# Altium footprint library SR PCB Library V01.PcbLib: 402 footprints (part 21 of 26)
Each footprint in its own frame and in the unit in brackets; x right, y up, seen from the top. Pads: shape width x height; smd on the part's side, far side on the other; paste and mask are expansions set on the pad; w line width, h text height; cw(c..) or ccw(c..) is an arc to the next point about the centre after c.
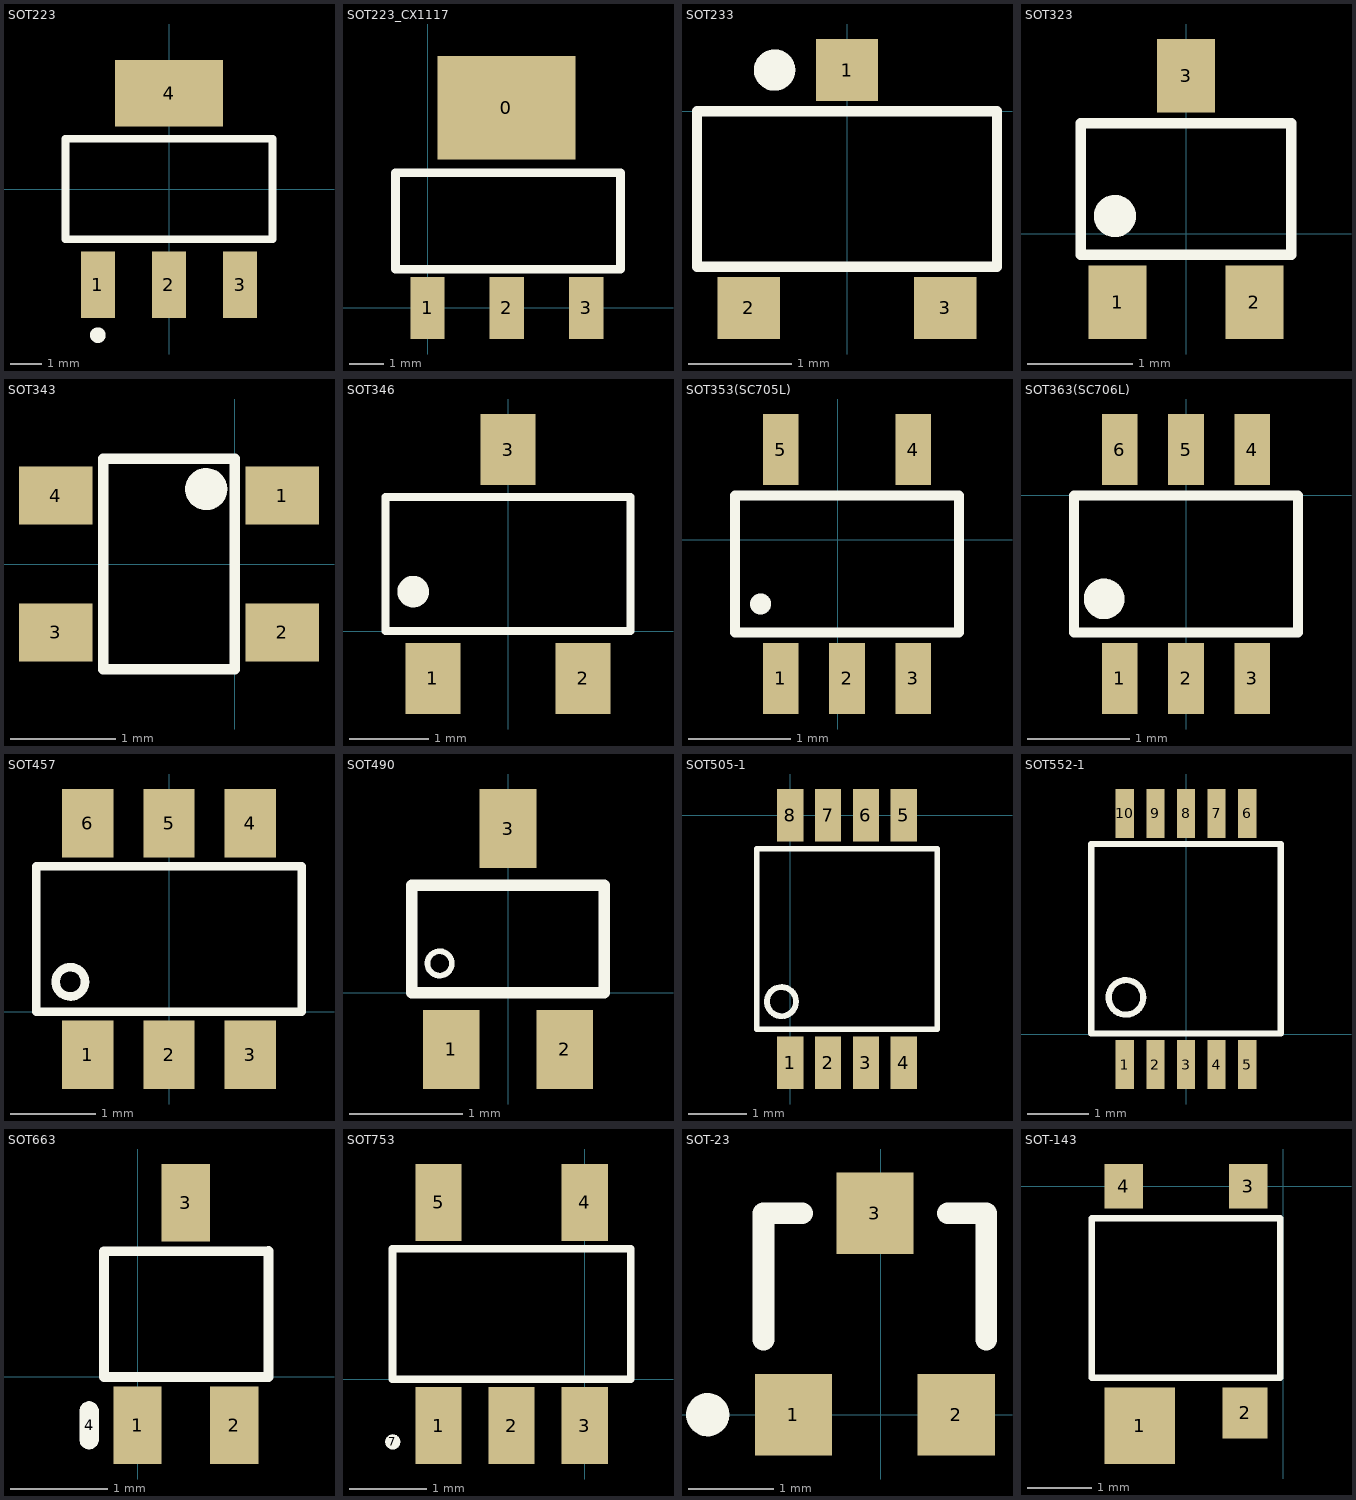
[diagram p20: the footprints below, top view; thin cyan lines are the x and y axes]

## SOT223 [mm]
pads (4):
  rect 1.1x2.15 smd: 1(-2.3,-3.1) 2(0,-3.1) 3(2.3,-3.1)
  rect 3.5x2.15 smd: 4(0,3.1)
Top Overlay:
  circle w0.254: c-2.3,-4.725 r0.125
  lines w0.254: -3.35,-1.625 -3.35,1.625 3.35,1.625 3.35,-1.625 -3.35,-1.625

## SOT223_CX1117 [mm]
pads (4):
  rect 4x3 smd: 0(2.287,5.803)
  rect 1x1.8 smd: 1(0,0) 2(2.3,0) 3(4.6,0)
Top Overlay:
  lines w0.254: -0.93,1.12 5.6,1.12 5.6,3.92 -0.93,3.92 -0.93,1.12

## SOT233 [mm]
pads (3):
  rect 0.6x0.6 smd: 1(0,0.4) 2(-0.95,-1.9) 3(0.95,-1.9)
Top Overlay:
  circle w0.2: c-0.7,0.4 r0.1
  lines w0.1: -1.45,-1.5 1.45,-1.5 1.45,0 -1.45,0 -1.45,-1.5

## SOT323 [mm]
pads (3):
  rect 0.55x0.7 smd: 1(-0.65,-0.65) 2(0.65,-0.65) 3(0,1.5)
Top Overlay:
  circle w0.2: c-0.675,0.168 r0.1
  lines w0.1: -1,-0.2 -1,1.05 1,1.05 1,-0.2 -1,-0.2

## SOT343 [mm]
pads (4):
  rect 0.7x0.55 smd: 1(0.45,0.65) 2(0.45,-0.65) 3(-1.7,-0.65) 4(-1.7,0.65)
Top Overlay:
  circle w0.2: c-0.271,0.711 r0.1
  lines w0.1: -1.25,-1 0,-1 0,1 -1.25,1 -1.25,-1

## SOT346 [mm]
pads (3):
  rect 0.7x0.9 smd: 1(-0.95,-0.6) 2(0.95,-0.6) 3(0,2.3)
Top Overlay:
  circle w0.2: c-1.2,0.5 r0.1
  lines w0.1: -1.55,0 -1.55,1.7 1.55,1.7 1.55,0 -1.55,0

## SOT353(SC705L) [mm]
pads (5):
  rect 0.35x0.7 smd: 1(-0.558,-1.364) 2(0.092,-1.364) 3(0.742,-1.364) 4(0.742,0.886) 5(-0.558,0.886)
Top Overlay:
  circle w0.2: c-0.757,-0.631 r0.004
  lines w0.1: -1.008,-0.914 1.192,-0.914 1.192,0.436 -1.008,0.436 -1.008,-0.914

## SOT363(SC706L) [mm]
pads (6):
  rect 0.35x0.7 smd: 1(-0.65,-1.8) 2(0,-1.8) 3(0.65,-1.8) 4(0.65,0.45) 5(0,0.45) 6(-0.65,0.45)
Top Overlay:
  circle w0.2: c-0.805,-1.018 r0.1
  lines w0.1: -1.1,-1.35 1.1,-1.35 1.1,0 -1.1,0 -1.1,-1.35

## SOT457 [mm]
pads (6):
  rect 0.6x0.8 smd: 1(-0.95,-0.5) 2(0,-0.5) 3(0.95,-0.5) 4(0.95,2.2) 5(0,2.2) 6(-0.95,2.2)
Top Overlay:
  circle w0.1: c-1.151,0.35 r0.171
  lines w0.1: -1.55,0 1.55,0 1.55,1.7 -1.55,1.7 -1.55,0

## SOT490 [mm]
pads (3):
  rect 0.5x0.7 smd: 1(-0.5,-0.5) 2(0.5,-0.5) 3(0,1.45)
Top Overlay:
  circle w0.05: c-0.604,0.259 r0.107
  lines w0.1: -0.85,0 -0.85,0.95 0.85,0.95 0.85,0 -0.85,0

## SOT505-1 [mm]
pads (8):
  rect 0.45x0.9 smd: 1(0,-4.25) 2(0.65,-4.25) 3(1.3,-4.25) 4(1.95,-4.25) 5(1.95,0) 6(1.3,0) 7(0.65,0) 8(0,0)
Top Overlay:
  circle w0.1: c-0.15,-3.2 r0.25
  lines w0.1: -0.575,-3.675 -0.575,-0.575 2.525,-0.575 2.525,-3.675 -0.575,-3.675

## SOT552-1 [mm]
pads (10):
  rect 0.3x0.8 smd: 1(-1,-0.5) 2(-0.5,-0.5) 3(0,-0.5) 4(0.5,-0.5) 5(1,-0.5) 6(1,3.61) 7(0.5,3.61) 8(0,3.61) 9(-0.5,3.61) 10(-1,3.61)
Top Overlay:
  circle w0.1: c-0.983,0.6 r0.283
  lines w0.1: -1.55,0.01 -1.55,3.11 1.55,3.11 1.55,0.01 -1.55,0.01

## SOT663 [mm]
pads (4):
  rect 0.5x0.8 smd: 1(0,-0.5) 2(1,-0.5) 3(0.5,1.8)
  oval 0.2x0.5 on Top Overlay: 4(-0.5,-0.5)
Top Overlay:
  lines w0.1: -0.347,0 1.353,0 1.353,1.301 -0.347,1.3 -0.347,0

## SOT753 [mm]
pads (6):
  rect 0.6x1 smd: 1(-1.9,-0.6) 2(-0.95,-0.6) 3(0,-0.6) 4(0,2.3) 5(-1.9,2.3)
  round 0.2 on Top Overlay: 7(-2.495,-0.813)
Top Overlay:
  lines w0.1: -2.5,0 -2.5,1.7 0.6,1.7 0.6,0 -2.5,0

## SOT-23 [mm]
pads (3):
  rect 0.9x0.95 smd: 1(-1.016,0) 2(0.884,0) 3(-0.066,2.35)
Top Overlay:
  circle w0.254: c-2.016,0 r0.125
  lines w0.254: -1.366,0.875 -1.366,2.35 -0.916,2.35 ; 0.784,2.35 1.234,2.35 1.234,0.875

## SOT-143 [mm]
pads (4):
  rect 1.1x1.2 smd: 1(-2.25,-3.75)
  rect 0.7x0.8 smd: 2(-0.6,-3.55)
  rect 0.6x0.7 smd: 3(-0.55,0) 4(-2.5,0)
Top Overlay:
  lines w0.1: -3,-3 -3,-0.5 -0.05,-0.5 -0.05,-3 -3,-3